# Altium footprint library Specific Devices.PcbLib: 3 footprints
Each footprint in its own frame and in the unit in brackets; x right, y up, seen from the top. Pads: shape width x height; smd on the part's side, far side on the other; paste and mask are expansions set on the pad; w line width, h text height; cw(c..) or ccw(c..) is an arc to the next point about the centre after c.
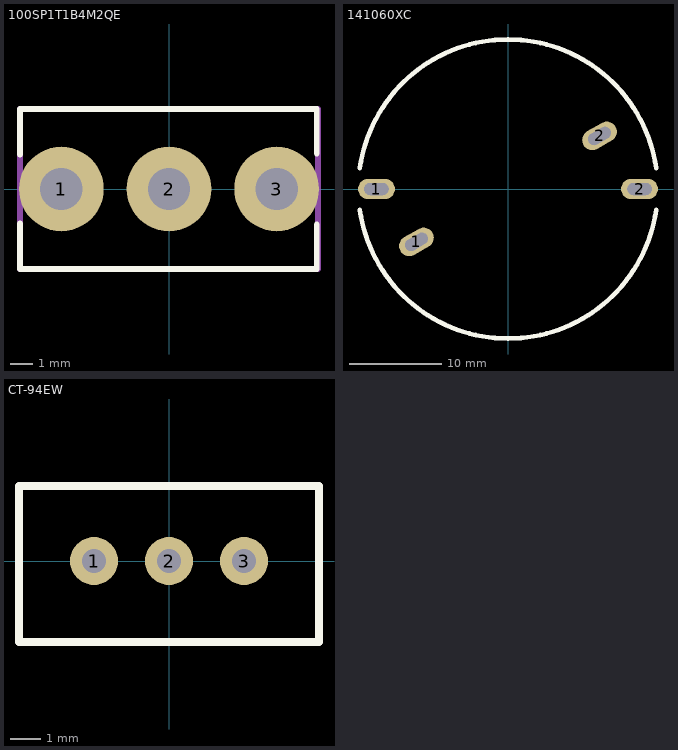
[diagram p0: the footprints below, top view; thin cyan lines are the x and y axes]

## 100SP1T1B4M2QE [mm]
pads (3):
  round 3.7 hole 1.85: 1(-4.7,0) 2(0,0) 3(4.7,0)
Top Overlay:
  lines w0.254: -6.5,-1.5 -6.5,-3.5 6.454,-3.5 6.454,-1.546 ; -6.5,1.5 -6.5,3.5 6.454,3.5 6.454,1.546
Mechanical 15:
  lines w0.254: -6.5,-3.5 6.5,-3.5 6.5,3.5 -6.5,3.5 -6.5,-3.5
3D body "100SPxT1B4M2xE.stp": height 29.74, standoff -5.04, extent -6.35,-3.43 6.35,3.43

## 141060XC [mm] "10mH inductor 1410606C or 1410604C"
pads (4):
  oval 4x2.2 hole 1.3 slot 2.65 at 0 deg: 1(-14.25,0) 2(14.25,0)
  oval 4x2.2 hole 1.3 slot 2.65 at 30 deg rot 30: 1(-9.916,-5.725) 2(9.916,5.75)
Top Overlay:
  lines w0.5: -16.042,-2.255 ccw(c0,0) 16.042,-2.255 ; -16.042,2.255 cw(c0,0) 16.042,2.255
3D body: height 23.5, standoff 0.1, extent -16.2,-16.196 16.2,16.196

## CT-94EW [mm]
pads (3):
  round 1.6 hole 0.8: 1(-2.5,0) 2(0,0) 3(2.5,0)
Top Overlay:
  lines w0.254: -5,-2.7 -5,2.5 5,2.5 5,-2.7 -5,-2.7
3D body "CT94EW.stp": height 10.9, standoff -7.8, extent -4.8,-2.5 4.8,2.3